# EAGLE library part FLAT-FLEX-CONNECTOR-RA-08POS (library FlashPCB_Connectors)
FLAT-FLEX-CONNECTOR-RA-08POS - Flat Flex Connector 8 position Right Angle Technical Specifications: Number of Positions: 8 Contact: Top or Bottom Mount: Right Angle
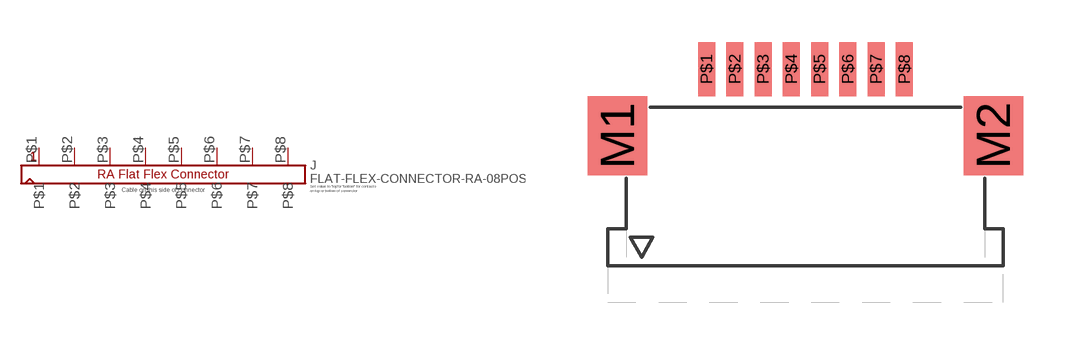
[diagram p106: symbol with the pads of FLAT-FLEX-CONNECTOR-MOLEX-522XX-RA-08POS; footprint FLAT-FLEX-CONNECTOR-MOLEX-522XX-RA-08POS]

Designator prefix J

## FLAT-FLEX-CONNECTOR-RA-08POS1MM-PITCH  [FLAT-FLEX-CONNECTOR-MOLEX-522XX-RA-08POS]
P$1  P$1
P$2  P$2
P$3  P$3
P$4  P$4
P$5  P$5
P$6  P$6
P$7  P$7
P$8  P$8

## Footprint FLAT-FLEX-CONNECTOR-MOLEX-522XX-RA-08POS (pad centres in mm)
smd 2.1 x 2.8: M1 -6.65,-1.4; M2 6.65,-1.4
smd 0.6 x 1.9: P$1 -3.5,0.95; P$2 -2.5,0.95; P$3 -1.5,0.95; P$4 -0.5,0.95; P$5 0.5,0.95; P$6 1.5,0.95; P$7 2.5,0.95; P$8 3.5,0.95